# Altium schematic symbol library Filter.SchLib: 3 symbols
Pins are listed as number, name and electrical type; pins without a type are passive.

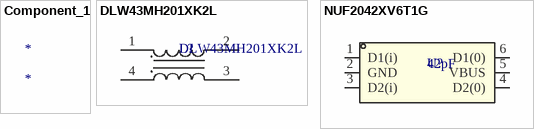
[diagram p0: symbols Component_1 to NUF2042XV6T1G]

## Component_1
designator *

## DLW43MH201XK2L
designator L?
通道数:2;电感@频率:200uH@100kHz;直流电阻(DCR):4.5Ω;; Manufacturer: muRata(村田); SEEX_AUTHOR: ref42; SEEX_COMPONENT_ID: C123086; Current Rating: 110mA; DC Resistance(DCR): 4.5Ω; Number of Lines: 2; Voltage Rating - DC: 20V; SEEX_PROJECT_URL: https://github.com/ref42/seex; Footprint: FILTER-SMD_4P-L4.5-W3.2-BL_DLW43MH201XK2L; Datasheet: https://item.szlcsc.com/datasheet/DLW43MH201XK2L/124356.html; Inductance @ Frequency: 200uH@100kHz; JLCPCB Part Class: Extended Part; LCSC Part Name: 两路 1812共模滤波器; Manufacturer Part: DLW43MH201XK2L; Operating Temperature: -40℃~+105℃; Supplier: LCSC; Supplier Footprint: SMD-4P,4.5x3.2mm; Supplier Part: C123086
footprint FILTER-SMD_4P-L4.5-W3.2-BL_DLW43MH201XK2L (1812)
pins: 1, 2, 3, 4

## NUF2042XV6T1G
designator U?, comment 42pF
滤波器阶数:2;容值:42pF;通道数:2;; Manufacturer: onsemi(安森美); Manufacturer Part: NUF2042XV6T1G; SEEX_AUTHOR: ref42; SEEX_COMPONENT_ID: C90707; ESD Protection: 有; Filter Order: 2; SEEX_PROJECT_URL: https://github.com/ref42/seex; Footprint: SOT-563_L1.6-W1.2-P0.50-LS1.6-TL; Datasheet: https://atta.szlcsc.com/upload/public/pdf/source/20221020/EA5241A61CFA6E196F125BE50C842EA7.pdf; JLCPCB Part Class: Extended Part; LCSC Part Name: NUF2042XV6T1G; Number of Channels: 2; OperatingTemperature: -55℃~+125℃; Supplier: LCSC; Supplier Footprint: SOT-563; Supplier Part: C90707; Value: 42pF
footprint SOT-563_L1.6-W1.2-P0.50-LS1.6-TL (SOT-563; SOT-23; -; SOT-5X3-6)
pins: 1 D1(i), 2 GND, 3 D2(i), 4 D2(0), 5 VBUS, 6 D1(0)